# EAGLE library part 615008148521 (library con-RJ45)
CONN MOD JACK 8P8C R/A UNSHLD
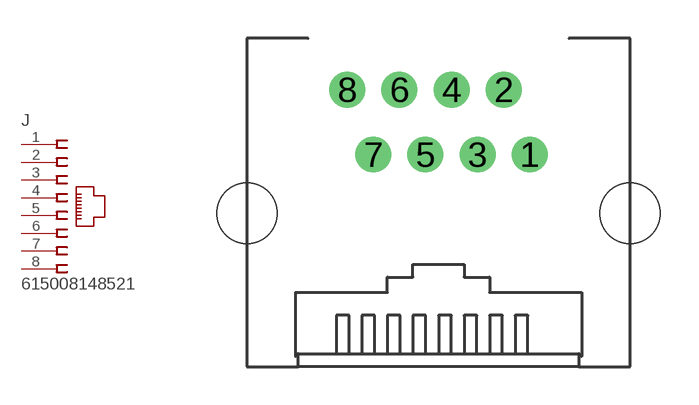
[diagram p5: symbol with the pads of 615008148521; footprint 615008148521]

Designator prefix J

## 615008148521 (DIGIKEY: 732-5936-ND; MFR: Wurth; MPN: ber 615008148521)  [615008148521]
1  1  pas
2  2  pas
3  3  pas
4  4  pas
5  5  pas
6  6  pas
7  7  pas
8  8  pas

## Footprint 615008148521 (pad centres in mm)
drill 0.9: 1 3.57,2.3; 2 2.55,4.84; 3 1.53,2.3; 4 0.51,4.84; 5 -0.51,2.3; 6 -1.53,4.84; 7 -2.55,2.3; 8 -3.57,4.84
hole 2.36 at -7.5,0
hole 2.36 at 7.5,0